# Altium footprint library Componentes.PcbLib: 31 footprints (part 2 of 2)
Each footprint in its own frame and in the unit in brackets; x right, y up, seen from the top. Pads: shape width x height; smd on the part's side, far side on the other; paste and mask are expansions set on the pad; w line width, h text height; cw(c..) or ccw(c..) is an arc to the next point about the centre after c.
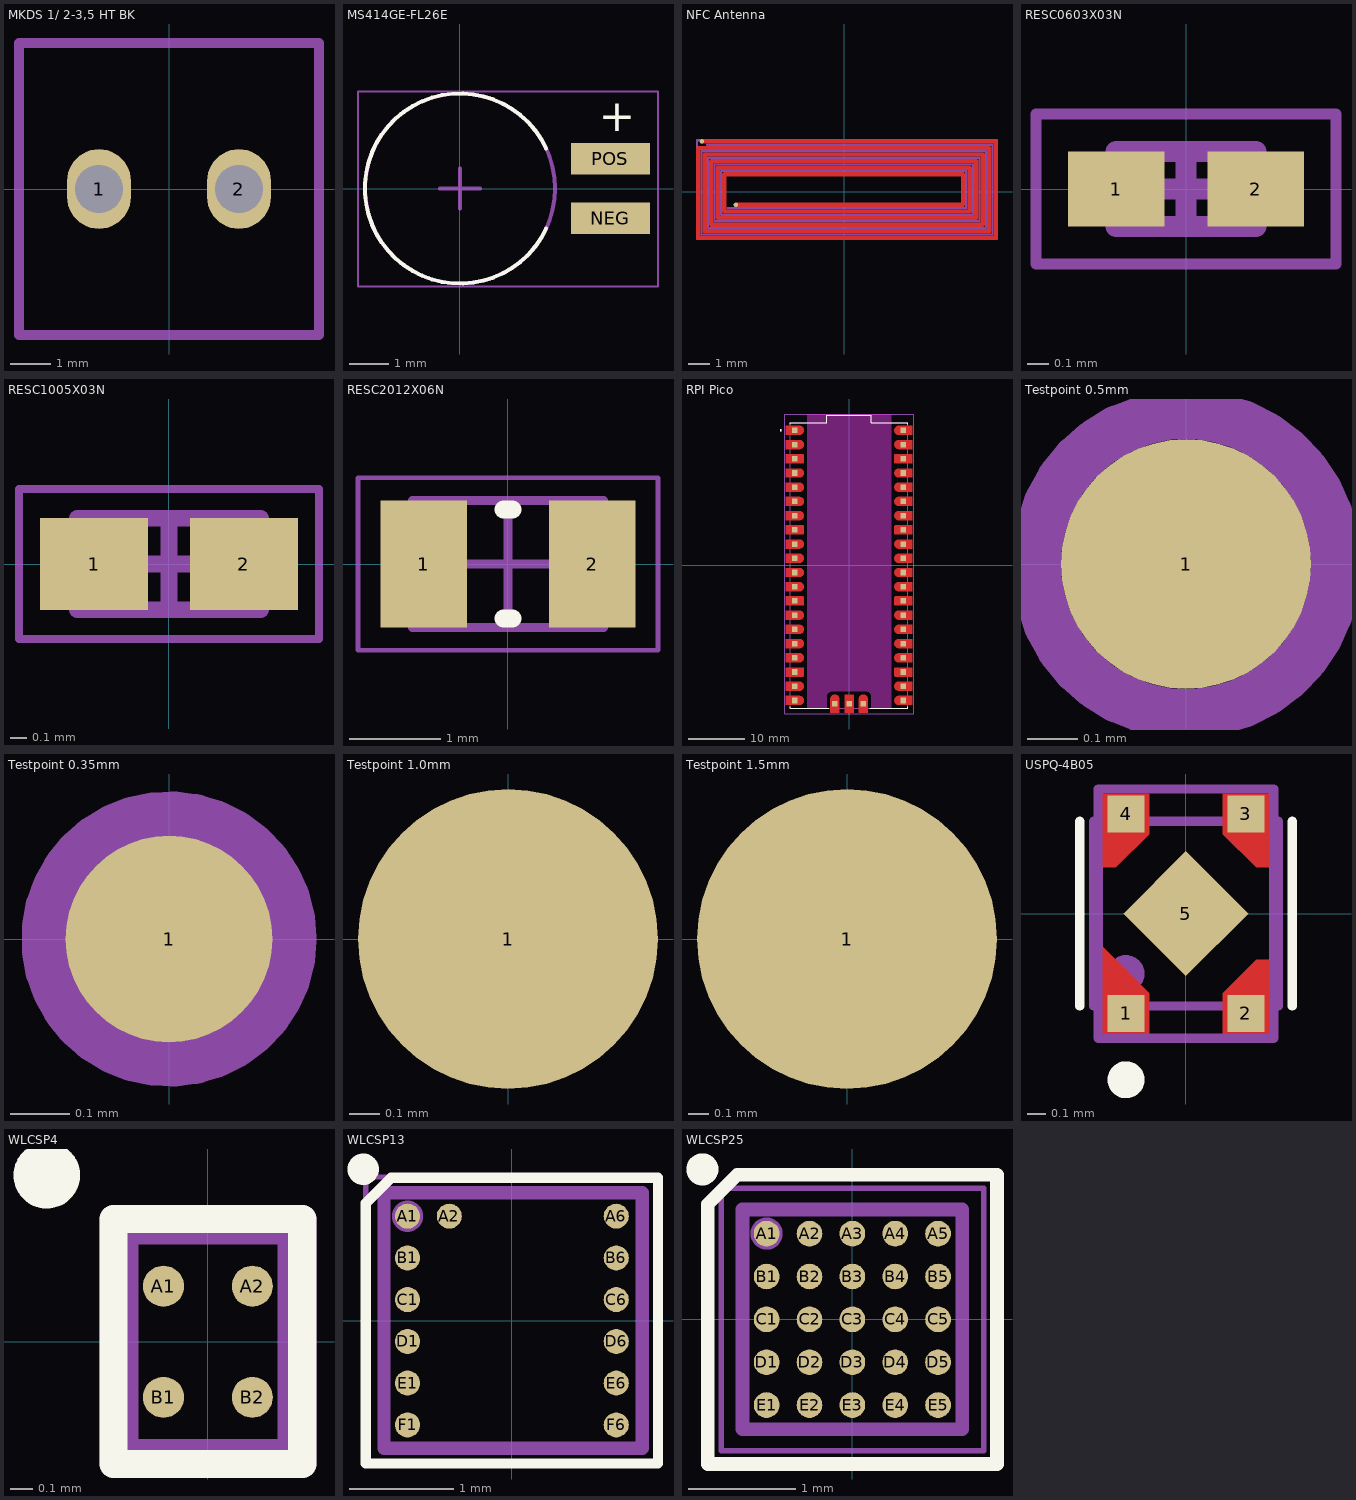
[diagram p1: the footprints below, top view; thin cyan lines are the x and y axes]

## MKDS 1/ 2-3,5 HT BK [mm] "MKDS 1/ 2-3,5 HT BK Screw Terminal"
pads (2):
  oval 1.6x2 hole 1.2: 1(-1.75,0) 2(1.75,0)
Mechanical 15:
  lines w0.254: -3.75,-3.65 3.75,-3.65 ; -3.75,-3.65 -3.75,3.65 ; -3.75,-3.65 3.75,-3.65 ; -3.75,-3.65 -3.75,3.65 ; -3.75,3.65 3.75,3.65 ; -3.75,3.65 3.75,3.65 ; 3.75,-3.65 3.75,3.65 ; 3.75,-3.65 3.75,3.65
3D body "pxc_1985807_02_MKDS-1-2-3-5-HT-BK_3D.stp": height 8.5, standoff -3.5, extent -3.75,-3.7 3.75,3.6

## MS414GE-FL26E [mm] "Rechargeable Battery, 3 V, Lithium, 2 mAh, Button Cell, PCB Pins, 4.8 mm"
pads (2):
  rect 2x0.8 smd: NEG(3.8,-0.75) POS(3.8,0.75)
Top Overlay:
  lines w0.1: 2.175,-1.014 cw(c0,0) 2.175,1.014
  text "+" at 3.5,1.45 h0.81
Top 3D Body:
  circle w0.1: c0,0 r2.4
Top Courtyard:
  lines w0.05: -2.575,-2.475 5,-2.475 5,2.45 -2.575,2.45 -2.575,-2.475
  lines w0.1: -0.5,0 0.5,0 ; 0,-0.5 0,0.5
Mechanical 15:
  lines w0.05: -2.575,-2.475 5,-2.475 5,2.45 -2.575,2.45 -2.575,-2.475
3D body: height 1.65, standoff 0, extent -2.4,-2.4 2.4,2.4

## NFC Antenna [mm] "4.5 x 15 mm"
pads (2):
  round 0.2 smd paste-2 mask+0.102: 1(-6.5,2.3) 2(-4.95,-0.6)
Top Layer:
  lines w0.2: -6.5,2.3 6.925,2.3 6.925,-2.1 -6.675,-2.1 -6.675,2 6.625,2 6.625,-1.8 -6.375,-1.8 -6.375,1.7 6.325,1.7 6.325,-1.5 -6.075,-1.5 -6.075,1.4 6.025,1.4 6.025,-1.175 ; -4.95,-0.6 5.425,-0.6 5.425,0.8 -5.475,0.8 -5.475,-0.9 5.725,-0.9 5.725,1.1 -5.775,1.1 -5.775,-1.2 6.025,-1.2
Top Courtyard:
  lines w0.1: -6.275,2.15 5.887,2.15 ; -6.225,-1.65 -6.225,1.55 5.7,1.55 6.175,1.55 6.175,-0.875 6.175,-1.35 -5.925,-1.35 -5.925,0.775 -5.925,1.25 5.4,1.25 5.875,1.25 5.875,-0.575 5.875,-1.05 -5.625,-1.05 -5.625,0.95 5.1,0.95 5.575,0.95 5.575,-0.275 5.575,-0.75 -5.325,-0.75 ; -6.2,-1.65 6.475,-1.65 ; 5,2.15 6.775,2.15 6.775,-1.475 6.775,-1.95 -6.525,-1.95 -6.525,1.85 -5.975,1.85 6,1.85 6.475,1.85 6.475,1.3 ; 5.925,-1.65 6.475,-1.65 ; 6.475,-1.175 6.475,-1.65 ; 6.475,-1.65 6.475,1.3 ; 6.475,1.3 6.475,1.3
Mechanical 15:
  lines w0.1: -6.725,-2.15 6.975,-2.15 6.975,2.35 -6.725,2.35 -6.725,-2.15

## RESC0603X03N [mm] "Chip Resistor, 2-Leads, Body 0,60x0,30mm, IPC Medium Density"
height 0.26
pads (2):
  rect 0.45x0.35 smd: 1(-0.325,0) 2(0.325,0)
Mechanical 13:
  lines w0.1: -0.325,-0.175 0.325,-0.175 0.325,0.175 -0.325,0.175 -0.325,-0.175
Mechanical 15:
  lines w0.05: -0.7,-0.35 0.7,-0.35 0.7,0.35 -0.7,0.35 -0.7,-0.35
  lines w0.1: -0.175,0 0.175,0 ; 0,-0.175 0,0.175
3D body: height 0.26, standoff 0, extent 0.205,-0.175 0.325,0.175
3D body: height 0.26, standoff 0, extent -0.325,-0.175 -0.205,0.175
3D body: height 0.26, standoff 0, extent -0.205,-0.175 0.205,0.175

## RESC1005X03N [mm] "Chip Resistor, 2-Leads, Body 1,00x0,50mm, IPC Medium Density"
height 0.3
pads (2):
  rect 0.65x0.55 smd mask+0.075: 1(-0.45,0) 2(0.45,0)
Mechanical 13:
  lines w0.1: -0.55,-0.275 0.55,-0.275 0.55,0.275 -0.55,0.275 -0.55,-0.275
Mechanical 15:
  lines w0.05: -0.9,-0.45 0.9,-0.45 0.9,0.45 -0.9,0.45 -0.9,-0.45
  lines w0.1: -0.275,0 0.275,0 ; 0,-0.275 0,0.275
3D body: height 0.3, standoff 0, extent 0.3,-0.275 0.55,0.275
3D body: height 0.3, standoff 0, extent -0.55,-0.275 -0.3,0.275
3D body: height 0.3, standoff 0, extent -0.3,-0.275 0.3,0.275

## RESC2012X06N [mm] "Chip Resistor, 2-Leads, Body 2,00x1,25mm, IPC Medium Density"
height 0.6
pads (2):
  rect 0.95x1.4 smd: 1(-0.925,0) 2(0.925,0)
Top Overlay:
  lines w0.2: -0.05,-0.6 0.05,-0.6 ; -0.05,0.6 0.05,0.6
Top Courtyard:
  lines w0.05: -1.65,-0.95 1.65,-0.95 1.65,0.95 -1.65,0.95 -1.65,-0.95
  lines w0.1: -0.5,0 0.5,0 ; 0,-0.5 0,0.5
Mechanical 13:
  lines w0.1: -1.05,-0.7 1.05,-0.7 1.05,0.7 -1.05,0.7 -1.05,-0.7
3D body: height 0.6, standoff 0, extent 0.7,-0.7 1.05,0.7
3D body: height 0.6, standoff 0, extent -1.05,-0.7 -0.7,0.7
3D body: height 0.6, standoff 0, extent -0.7,-0.7 0.7,0.7

## RPI Pico [mm]
pads (43):
  rect 1x1 smd paste-1 mask+0: 1(-9.69,24.13) 2(-9.69,21.59) 3(-9.69,19.05) 4(-9.69,16.51) 5(-9.69,13.97) 6(-9.69,11.43) 7(-9.69,8.89) 8(-9.69,6.35) 9(-9.69,3.81) 10(-9.69,1.27) 11(-9.69,-1.27) 12(-9.69,-3.81) 13(-9.69,-6.35) 14(-9.69,-8.89) 15(-9.69,-11.43) 16(-9.69,-13.97) 17(-9.69,-16.51) 18(-9.69,-19.05) 19(-9.69,-21.59) 20(-9.69,-24.13) 21(9.69,-24.13) 22(9.69,-21.59) 23(9.69,-19.05) 24(9.69,-16.51) 25(9.69,-13.97) 26(9.69,-11.43) 27(9.69,-8.89) 28(9.69,-6.35) 29(9.69,-3.81) 30(9.69,-1.27) 31(9.69,1.27) 32(9.69,3.81) 33(9.69,6.35) 34(9.69,8.89) 35(9.69,11.43) 36(9.69,13.97) 37(9.69,16.51) 38(9.69,19.05) 39(9.69,21.59) 40(9.69,24.13) D1(-2.54,-24.7) D2(0,-24.7) D3(2.54,-24.7)
Top Layer:
  drawing of 43 lines, arcs and shapes, not listed
Top Layer keep-out:
  region: -7.5,27 -7.5,-25.5 -4,-25.5 -4,-23.5 -3.995,-23.402 -3.957,-23.21 -3.882,-23.029 -3.773,-22.866 -3.634,-22.727 -3.471,-22.618 -3.29,-22.543 -3.098,-22.505 -3,-22.5 3,-22.5 3.098,-22.505 3.29,-22.543 3.471,-22.618 3.634,-22.727 3.773,-22.866 3.882,-23.029 3.957,-23.21 3.995,-23.402 4,-23.5 4,-25.5 7.5,-25.5 7.5,27
Top Overlay:
  circle w0.2: c-12.19,24.13 r0.1
  lines w0.2: -10.5,-25.25 -10.5,-25.5 -3.66,-25.5 ; -10.5,25.25 -10.5,25.5 -4,25.5 -4,26.8 4,26.8 4,25.5 10.5,25.5 10.5,25.25 ; 3.66,-25.5 10.5,-25.5 10.5,-25.25
Top Paste:
  drawing of 43 lines, arcs and shapes, not listed
Top Solder:
  drawing of 43 lines, arcs and shapes, not listed
Mechanical 13:
  circle w0.2: c-12.19,24.13 r0.1
  lines w0.127: -10.5,-25.5 10.5,-25.5 10.5,25.5 4,25.5 4,26.8 -4,26.8 -4,25.5 -10.5,25.5 -10.5,-25.5
Mechanical 15:
  lines w0.05: -11.54,-26.55 11.54,-26.55 11.54,27.05 -11.54,27.05 -11.54,-26.55
3D body "Raspberry Pi Pico-R3.STEP": height 3.69, standoff 0, extent -10.5,-25.5 10.5,26.926

## Testpoint 0.5mm [mm]
pads (1):
  round 0.5 smd paste-2 mask+0: 1(0,0)
Mechanical 15:
  circle w0.1: c0,0 r0.3

## Testpoint 0.35mm [mm]
pads (1):
  round 0.35 smd paste-2 mask+0: 1(0,0)
Mechanical 15:
  circle w0.1: c0,0 r0.2

## Testpoint 1.0mm [mm]
pads (1):
  round 1 smd: 1(0,0)

## Testpoint 1.5mm [mm]
pads (1):
  round 1.5 smd: 1(0,0)

## USPQ-4B05 [mm] "USPQ-4B05 Torex"
height 0.33
pads (5):
  rect 0.2x0.2 smd paste+0 mask+0: 1(-0.325,-0.54) 2(0.325,-0.54) 3(0.325,0.54) 4(-0.325,0.54)
  rect 0.48x0.48 smd rot 45 mask+0.075: 5(0,0)
Top Layer:
  region: 0.45,0.65 0.45,0.25 0.38,0.25 0.2,0.43 0.2,0.65
  region: 0.45,-0.65 0.45,-0.25 0.38,-0.25 0.2,-0.43 0.2,-0.65
  region: -0.45,0.65 -0.45,0.25 -0.38,0.25 -0.2,0.43 -0.2,0.65
  region: -0.45,-0.65 -0.45,-0.18 -0.2,-0.43 -0.2,-0.65
Top Overlay:
  circle w0.1: c-0.325,-0.9 r0.05
  lines w0.05: -0.575,-0.5 -0.575,0.5 ; 0.575,-0.5 0.575,0.5
Mechanical 13:
  circle w0.1: c-0.325,-0.325 r0.05
  lines w0.05: -0.5,-0.5 0.5,-0.5 0.5,0.5 -0.5,0.5 -0.5,-0.5
Mechanical 15:
  lines w0.05: -0.475,-0.675 0.475,-0.675 0.475,0.675 -0.475,0.675 -0.475,-0.675
3D body "DQN0004A.stp": height 0.34, standoff -0.02, extent -0.5,-0.5 0.5,0.5

## WLCSP4 [mm] "0.703 x 0.977 mm, 0.4 x 0.5 mm pitch thin wafer level chip scale package."
pads (4):
  round 0.185 smd paste+0.018 mask+0.04: A1(-0.2,0.25) A2(0.2,0.25) B1(-0.2,-0.25) B2(0.2,-0.25)
Top Overlay:
  circle w0.2: c-0.725,0.75 r0.05
  lines w0.127: -0.425,-0.55 -0.425,0.553 0.425,0.553 0.425,-0.55 -0.425,-0.55
Mechanical 13:
  lines w0.127: -0.425,-0.55 0.425,-0.55 0.425,0.553 -0.425,0.553 -0.425,-0.55
Mechanical 15:
  lines w0.1: -0.362,-0.487 0.363,-0.487 0.363,0.487 -0.362,0.487 -0.362,-0.487
3D body "WLCSP4_M24256_STM.step": height 0.33, standoff 0, extent -0.375,-0.491 0.361,0.499

## WLCSP13 [mm]
pads (13):
  round 0.24 smd paste+0.018 mask+0.04: A1(-1,1) A2(-0.6,1) A6(1,1) B1(-1,0.6) B6(1,0.6) C1(-1,0.2) C6(1,0.2) D1(-1,-0.2) D6(1,-0.2) E1(-1,-0.6) E6(1,-0.6) F1(-1,-1) F6(1,-1)
Top Overlay:
  circle w0.2: c-1.425,1.45 r0.05
  lines w0.1: -1.4,-1.37 -1.4,1.125 -1.155,1.37 1.4,1.37 1.4,-1.37 -1.4,-1.37
Mechanical 13:
  circle w0.2: c-1,1 r0.05
  lines w0.127: -1.225,-1.225 1.25,-1.225 1.25,1.225 -1.225,1.225 -1.225,-1.225
Mechanical 15:
  lines w0.05: -1.4,-1.375 1.4,-1.375 1.4,1.375 -1.4,1.375 -1.4,-1.375
3D body "WLCSP13.step": height 0.56, standoff 0, extent -1.4,-1.37 1.4,1.37

## WLCSP25 [mm]
pads (25):
  round 0.24 smd paste+0.018 mask+0.04: A1(-0.8,0.8) A2(-0.4,0.8) A3(0,0.8) A4(0.4,0.8) A5(0.8,0.8) B1(-0.8,0.4) B2(-0.4,0.4) B3(0,0.4) B4(0.4,0.4) B5(0.8,0.4) C1(-0.8,0) C2(-0.4,0) C3(0,0) C4(0.4,0) C5(0.8,0) D1(-0.8,-0.4) D2(-0.4,-0.4) D3(0,-0.4) D4(0.4,-0.4) D5(0.8,-0.4) E1(-0.8,-0.8) E2(-0.4,-0.8) E3(0,-0.8) E4(0.4,-0.8) E5(0.8,-0.8)
Top Overlay:
  circle w0.2: c-1.4,1.4 r0.05
  lines w0.127: -1.35,-1.35 -1.35,1.075 -1.075,1.35 1.35,1.35 1.35,-1.35 -1.35,-1.35
Top Solder:
  circle w0: c0.8,-0.8 r0.145
  circle w0: c0.8,-0.4 r0.145
  circle w0: c0.8,0 r0.145
  circle w0: c0.8,0.4 r0.145
  circle w0: c0.8,0.8 r0.145
  circle w0: c0.4,-0.8 r0.145
  circle w0: c0.4,-0.4 r0.145
  circle w0: c0.4,0 r0.145
  circle w0: c0.4,0.4 r0.145
  circle w0: c0.4,0.8 r0.145
  circle w0: c0,-0.8 r0.145
  circle w0: c0,-0.4 r0.145
  circle w0: c0,0 r0.145
  circle w0: c0,0.4 r0.145
  circle w0: c0,0.8 r0.145
  circle w0: c-0.4,-0.8 r0.145
  circle w0: c-0.4,-0.4 r0.145
  circle w0: c-0.4,0 r0.145
  circle w0: c-0.4,0.4 r0.145
  circle w0: c-0.4,0.8 r0.145
  circle w0: c-0.8,-0.8 r0.145
  circle w0: c-0.8,-0.4 r0.145
  circle w0: c-0.8,0 r0.145
  circle w0: c-0.8,0.4 r0.145
  circle w0: c-0.8,0.8 r0.145
Mechanical 13:
  circle w0.2: c-0.8,0.8 r0.05
  lines w0.127: -1.025,-1.025 1.025,-1.025 1.025,1.025 -1.025,1.025 -1.025,-1.025
Mechanical 15:
  lines w0.05: -1.225,-1.225 1.225,-1.225 1.225,1.225 -1.225,1.225 -1.225,-1.225
3D body "WLCSP25_SOT1401-1_NXP.step": height 0.54, standoff 0, extent -1.27,-1.27 1.27,1.27